# Altium schematic symbol library SCH - MCU - ATSAM - MICROCHIP SAML21J18A-MU QFN64.SchLib: 1 symbol
Pins are listed as number, name and electrical type; pins without a type are passive.

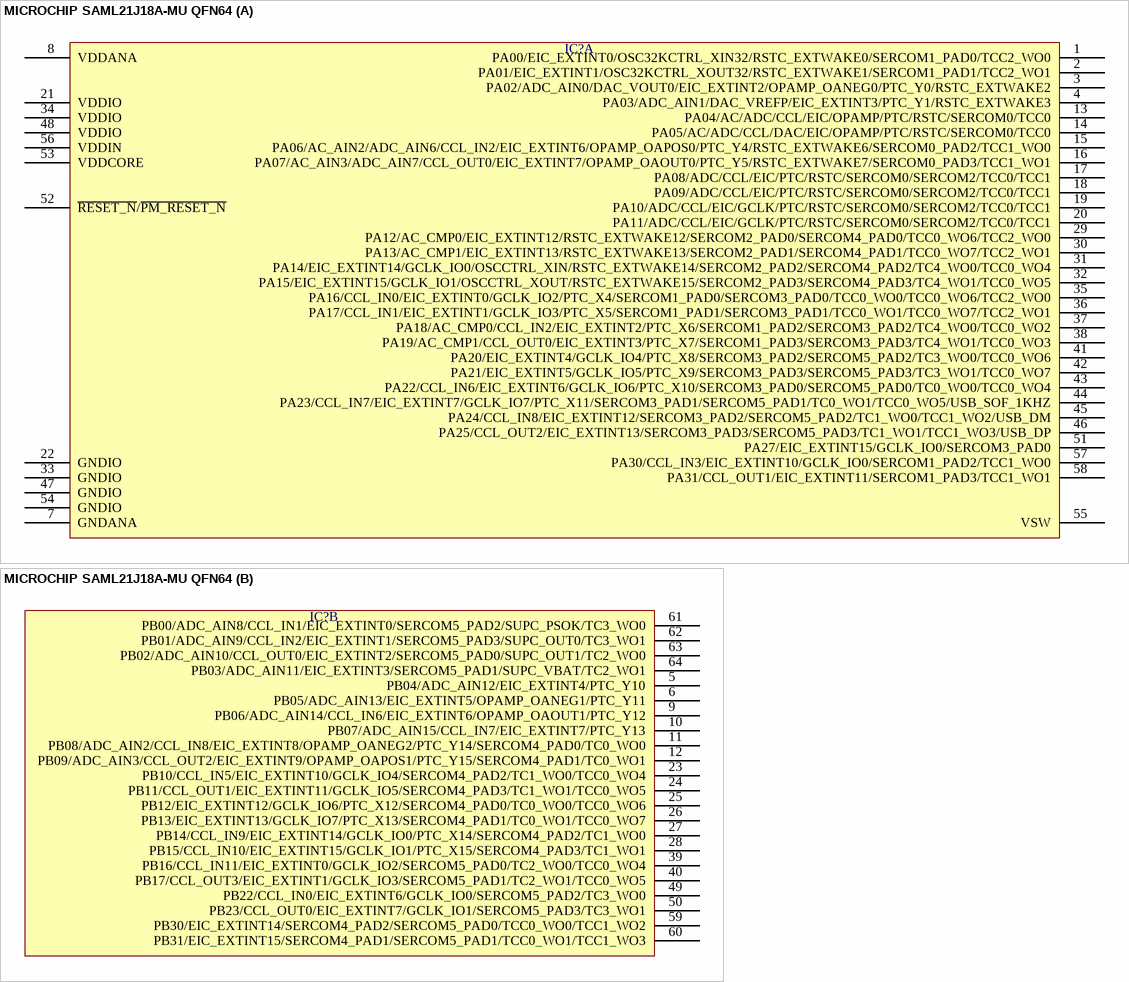
[diagram p0: symbol MICROCHIP SAML21J18A-MU QFN64]

## MICROCHIP SAML21J18A-MU QFN64
designator IC?  (value not drawn)
part A pins: 1 PA00/EIC_EXTINT0/OSC32KCTRL_XIN32/RSTC_EXTWAKE0/SERCOM1_PAD0/TCC2_WO0, 2 PA01/EIC_EXTINT1/OSC32KCTRL_XOUT32/RSTC_EXTWAKE1/SERCOM1_PAD1/TCC2_WO1, 3 PA02/ADC_AIN0/DAC_VOUT0/EIC_EXTINT2/OPAMP_OANEG0/PTC_Y0/RSTC_EXTWAKE2, 4 PA03/ADC_AIN1/DAC_VREFP/EIC_EXTINT3/PTC_Y1/RSTC_EXTWAKE3, 7 GNDANA, 8 VDDANA, 13 PA04/AC/ADC/CCL/EIC/OPAMP/PTC/RSTC/SERCOM0/TCC0, 14 PA05/AC/ADC/CCL/DAC/EIC/OPAMP/PTC/RSTC/SERCOM0/TCC0, 15 PA06/AC_AIN2/ADC_AIN6/CCL_IN2/EIC_EXTINT6/OPAMP_OAPOS0/PTC_Y4/RSTC_EXTWAKE6/SERCOM0_PAD2/TCC1_WO0, 16 PA07/AC_AIN3/ADC_AIN7/CCL_OUT0/EIC_EXTINT7/OPAMP_OAOUT0/PTC_Y5/RSTC_EXTWAKE7/SERCOM0_PAD3/TCC1_WO1, 17 PA08/ADC/CCL/EIC/PTC/RSTC/SERCOM0/SERCOM2/TCC0/TCC1, 18 PA09/ADC/CCL/EIC/PTC/RSTC/SERCOM0/SERCOM2/TCC0/TCC1, 19 PA10/ADC/CCL/EIC/GCLK/PTC/RSTC/SERCOM0/SERCOM2/TCC0/TCC1, 20 PA11/ADC/CCL/EIC/GCLK/PTC/RSTC/SERCOM0/SERCOM2/TCC0/TCC1, 21 VDDIO, 22 GNDIO, 29 PA12/AC_CMP0/EIC_EXTINT12/RSTC_EXTWAKE12/SERCOM2_PAD0/SERCOM4_PAD0/TCC0_WO6/TCC2_WO0, 30 PA13/AC_CMP1/EIC_EXTINT13/RSTC_EXTWAKE13/SERCOM2_PAD1/SERCOM4_PAD1/TCC0_WO7/TCC2_WO1, 31 PA14/EIC_EXTINT14/GCLK_IO0/OSCCTRL_XIN/RSTC_EXTWAKE14/SERCOM2_PAD2/SERCOM4_PAD2/TC4_WO0/TCC0_WO4, 32 PA15/EIC_EXTINT15/GCLK_IO1/OSCCTRL_XOUT/RSTC_EXTWAKE15/SERCOM2_PAD3/SERCOM4_PAD3/TC4_WO1/TCC0_WO5, 33 GNDIO, 34 VDDIO, 35 PA16/CCL_IN0/EIC_EXTINT0/GCLK_IO2/PTC_X4/SERCOM1_PAD0/SERCOM3_PAD0/TCC0_WO0/TCC0_WO6/TCC2_WO0, 36 PA17/CCL_IN1/EIC_EXTINT1/GCLK_IO3/PTC_X5/SERCOM1_PAD1/SERCOM3_PAD1/TCC0_WO1/TCC0_WO7/TCC2_WO1, 37 PA18/AC_CMP0/CCL_IN2/EIC_EXTINT2/PTC_X6/SERCOM1_PAD2/SERCOM3_PAD2/TC4_WO0/TCC0_WO2, 38 PA19/AC_CMP1/CCL_OUT0/EIC_EXTINT3/PTC_X7/SERCOM1_PAD3/SERCOM3_PAD3/TC4_WO1/TCC0_WO3, 41 PA20/EIC_EXTINT4/GCLK_IO4/PTC_X8/SERCOM3_PAD2/SERCOM5_PAD2/TC3_WO0/TCC0_WO6, 42 PA21/EIC_EXTINT5/GCLK_IO5/PTC_X9/SERCOM3_PAD3/SERCOM5_PAD3/TC3_WO1/TCC0_WO7, 43 PA22/CCL_IN6/EIC_EXTINT6/GCLK_IO6/PTC_X10/SERCOM3_PAD0/SERCOM5_PAD0/TC0_WO0/TCC0_WO4, 44 PA23/CCL_IN7/EIC_EXTINT7/GCLK_IO7/PTC_X11/SERCOM3_PAD1/SERCOM5_PAD1/TC0_WO1/TCC0_WO5/USB_SOF_1KHZ, 45 PA24/CCL_IN8/EIC_EXTINT12/SERCOM3_PAD2/SERCOM5_PAD2/TC1_WO0/TCC1_WO2/USB_DM, 46 PA25/CCL_OUT2/EIC_EXTINT13/SERCOM3_PAD3/SERCOM5_PAD3/TC1_WO1/TCC1_WO3/USB_DP, 47 GNDIO, 48 VDDIO, 51 PA27/EIC_EXTINT15/GCLK_IO0/SERCOM3_PAD0, 52 ~{RESET_N}/~{PM_RESET_N}, 53 VDDCORE, 54 GNDIO, 55 VSW, 56 VDDIN, 57 PA30/CCL_IN3/EIC_EXTINT10/GCLK_IO0/SERCOM1_PAD2/TCC1_WO0, 58 PA31/CCL_OUT1/EIC_EXTINT11/SERCOM1_PAD3/TCC1_WO1
part B pins: 5 PB04/ADC_AIN12/EIC_EXTINT4/PTC_Y10, 6 PB05/ADC_AIN13/EIC_EXTINT5/OPAMP_OANEG1/PTC_Y11, 9 PB06/ADC_AIN14/CCL_IN6/EIC_EXTINT6/OPAMP_OAOUT1/PTC_Y12, 10 PB07/ADC_AIN15/CCL_IN7/EIC_EXTINT7/PTC_Y13, 11 PB08/ADC_AIN2/CCL_IN8/EIC_EXTINT8/OPAMP_OANEG2/PTC_Y14/SERCOM4_PAD0/TC0_WO0, 12 PB09/ADC_AIN3/CCL_OUT2/EIC_EXTINT9/OPAMP_OAPOS1/PTC_Y15/SERCOM4_PAD1/TC0_WO1, 23 PB10/CCL_IN5/EIC_EXTINT10/GCLK_IO4/SERCOM4_PAD2/TC1_WO0/TCC0_WO4, 24 PB11/CCL_OUT1/EIC_EXTINT11/GCLK_IO5/SERCOM4_PAD3/TC1_WO1/TCC0_WO5, 25 PB12/EIC_EXTINT12/GCLK_IO6/PTC_X12/SERCOM4_PAD0/TC0_WO0/TCC0_WO6, 26 PB13/EIC_EXTINT13/GCLK_IO7/PTC_X13/SERCOM4_PAD1/TC0_WO1/TCC0_WO7, 27 PB14/CCL_IN9/EIC_EXTINT14/GCLK_IO0/PTC_X14/SERCOM4_PAD2/TC1_WO0, 28 PB15/CCL_IN10/EIC_EXTINT15/GCLK_IO1/PTC_X15/SERCOM4_PAD3/TC1_WO1, 39 PB16/CCL_IN11/EIC_EXTINT0/GCLK_IO2/SERCOM5_PAD0/TC2_WO0/TCC0_WO4, 40 PB17/CCL_OUT3/EIC_EXTINT1/GCLK_IO3/SERCOM5_PAD1/TC2_WO1/TCC0_WO5, 49 PB22/CCL_IN0/EIC_EXTINT6/GCLK_IO0/SERCOM5_PAD2/TC3_WO0, 50 PB23/CCL_OUT0/EIC_EXTINT7/GCLK_IO1/SERCOM5_PAD3/TC3_WO1, 59 PB30/EIC_EXTINT14/SERCOM4_PAD2/SERCOM5_PAD0/TCC0_WO0/TCC1_WO2, 60 PB31/EIC_EXTINT15/SERCOM4_PAD1/SERCOM5_PAD1/TCC0_WO1/TCC1_WO3, 61 PB00/ADC_AIN8/CCL_IN1/EIC_EXTINT0/SERCOM5_PAD2/SUPC_PSOK/TC3_WO0, 62 PB01/ADC_AIN9/CCL_IN2/EIC_EXTINT1/SERCOM5_PAD3/SUPC_OUT0/TC3_WO1, 63 PB02/ADC_AIN10/CCL_OUT0/EIC_EXTINT2/SERCOM5_PAD0/SUPC_OUT1/TC2_WO0, 64 PB03/ADC_AIN11/EIC_EXTINT3/SERCOM5_PAD1/SUPC_VBAT/TC2_WO1